# EAGLE library part DSPIC33EP256MC506 (library DRV83x2Support)
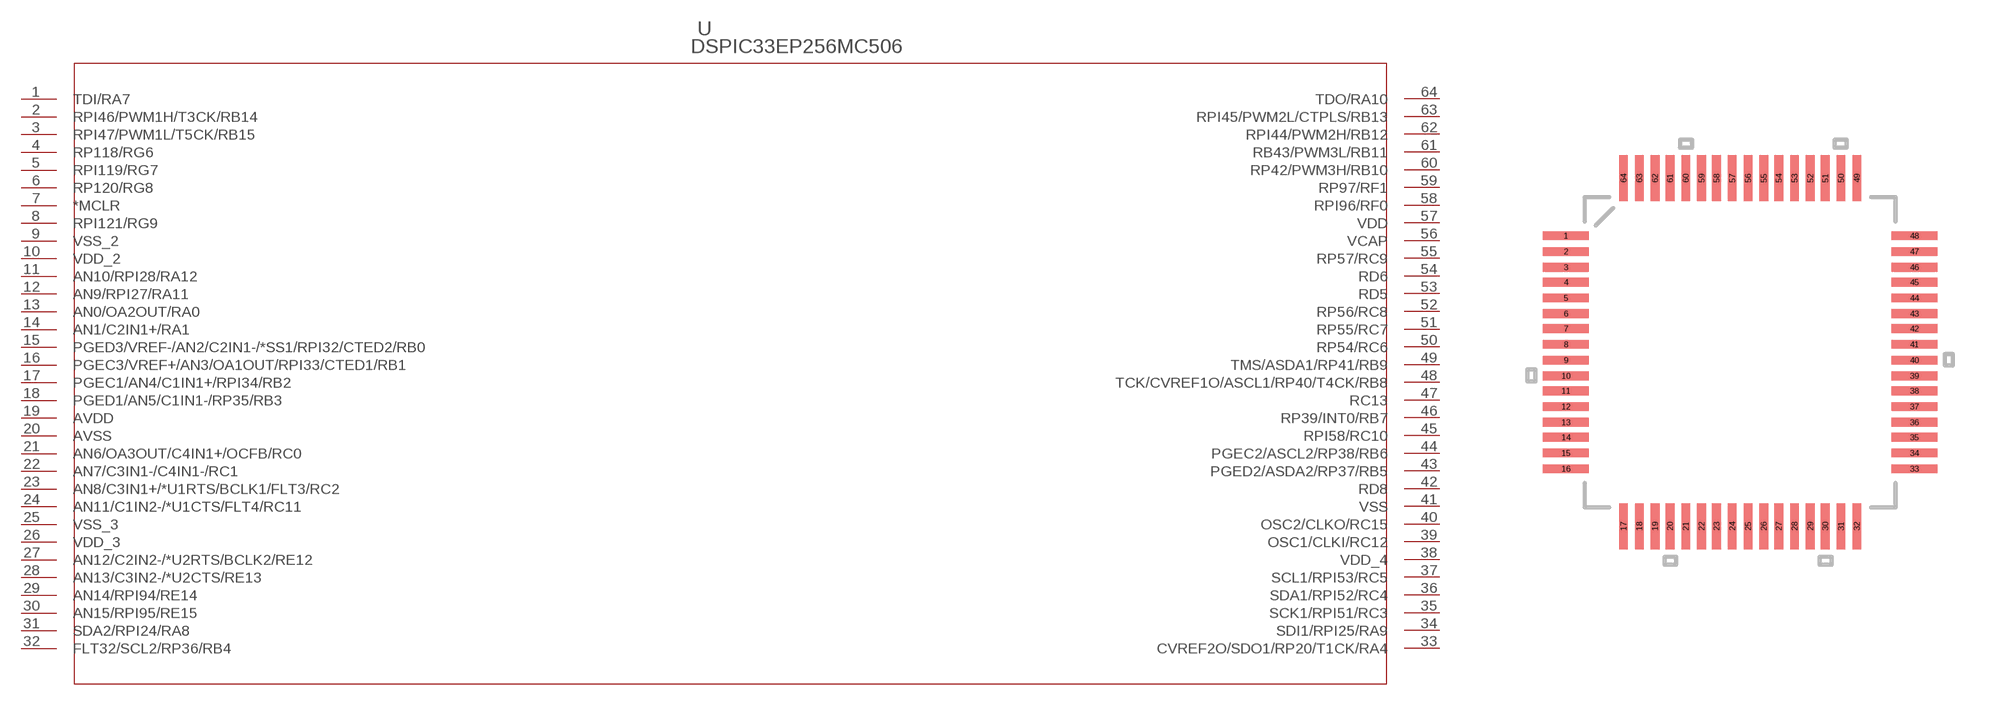
[diagram p2: symbol with the pads of QFP64-10X10MC; footprint QFP64-10X10MC]

Designator prefix -

## DSPIC33EP256MC506  [QFP64-10X10MC]
1  TDI/RA7  pas
2  RPI46/PWM1H/T3CK/RB14  pas
3  RPI47/PWM1L/T5CK/RB15  pas
4  RP118/RG6  pas
5  RPI119/RG7  pas
6  RP120/RG8  pas
7  *MCLR  pas
8  RPI121/RG9  pas
9  VSS_2  pas
10  VDD_2  pas
11  AN10/RPI28/RA12  pas
12  AN9/RPI27/RA11  pas
13  AN0/OA2OUT/RA0  pas
14  AN1/C2IN1+/RA1  pas
15  PGED3/VREF-/AN2/C2IN1-/*SS1/RPI32/CTED2/RB0  pas
16  PGEC3/VREF+/AN3/OA1OUT/RPI33/CTED1/RB1  pas
17  PGEC1/AN4/C1IN1+/RPI34/RB2  pas
18  PGED1/AN5/C1IN1-/RP35/RB3  pas
19  AVDD  pas
20  AVSS  pas
21  AN6/OA3OUT/C4IN1+/OCFB/RC0  pas
22  AN7/C3IN1-/C4IN1-/RC1  pas
23  AN8/C3IN1+/*U1RTS/BCLK1/FLT3/RC2  pas
24  AN11/C1IN2-/*U1CTS/FLT4/RC11  pas
25  VSS_3  pas
26  VDD_3  pas
27  AN12/C2IN2-/*U2RTS/BCLK2/RE12  pas
28  AN13/C3IN2-/*U2CTS/RE13  pas
29  AN14/RPI94/RE14  pas
30  AN15/RPI95/RE15  pas
31  SDA2/RPI24/RA8  pas
32  FLT32/SCL2/RP36/RB4  pas
33  CVREF2O/SDO1/RP20/T1CK/RA4  pas
34  SDI1/RPI25/RA9  pas
35  SCK1/RPI51/RC3  pas
36  SDA1/RPI52/RC4  pas
37  SCL1/RPI53/RC5  pas
38  VDD_4  pas
39  OSC1/CLKI/RC12  pas
40  OSC2/CLKO/RC15  pas
41  VSS  pas
42  RD8  pas
43  PGED2/ASDA2/RP37/RB5  pas
44  PGEC2/ASCL2/RP38/RB6  pas
45  RPI58/RC10  pas
46  RP39/INT0/RB7  pas
47  RC13  pas
48  TCK/CVREF1O/ASCL1/RP40/T4CK/RB8  pas
49  TMS/ASDA1/RP41/RB9  pas
50  RP54/RC6  pas
51  RP55/RC7  pas
52  RP56/RC8  pas
53  RD5  pas
54  RD6  pas
55  RP57/RC9  pas
56  VCAP  pas
57  VDD  pas
58  RPI96/RF0  pas
59  RP97/RF1  pas
60  RP42/PWM3H/RB10  pas
61  RB43/PWM3L/RB11  pas
62  RPI44/PWM2H/RB12  pas
63  RPI45/PWM2L/CTPLS/RB13  pas
64  TDO/RA10  pas

## Footprint QFP64-10X10MC (pad centres in mm)
smd 1.473 x 0.279: 1 -5.613,3.759; 2 -5.613,3.251; 3 -5.613,2.743; 4 -5.613,2.261; 5 -5.613,1.753; 6 -5.613,1.245; 7 -5.613,0.762; 8 -5.613,0.254; 9 -5.613,-0.254; 10 -5.613,-0.762; 11 -5.613,-1.245; 12 -5.613,-1.753; 13 -5.613,-2.261; 14 -5.613,-2.743; 15 -5.613,-3.251; 16 -5.613,-3.759; 33 5.613,-3.759; 34 5.613,-3.251; 35 5.613,-2.743; 36 5.613,-2.261; 37 5.613,-1.753; 38 5.613,-1.245; 39 5.613,-0.762; 40 5.613,-0.254; 41 5.613,0.254; 42 5.613,0.762; 43 5.613,1.245; 44 5.613,1.753; 45 5.613,2.261; 46 5.613,2.743; 47 5.613,3.251; 48 5.613,3.759
smd 0.279 x 1.473: 17 -3.759,-5.613; 18 -3.251,-5.613; 19 -2.743,-5.613; 20 -2.261,-5.613; 21 -1.753,-5.613; 22 -1.245,-5.613; 23 -0.762,-5.613; 24 -0.254,-5.613; 25 0.254,-5.613; 26 0.762,-5.613; 27 1.245,-5.613; 28 1.753,-5.613; 29 2.261,-5.613; 30 2.743,-5.613; 31 3.251,-5.613; 32 3.759,-5.613; 49 3.759,5.613; 50 3.251,5.613; 51 2.743,5.613; 52 2.261,5.613; 53 1.753,5.613; 54 1.245,5.613; 55 0.762,5.613; 56 0.254,5.613; 57 -0.254,5.613; 58 -0.762,5.613; 59 -1.245,5.613; 60 -1.753,5.613; 61 -2.261,5.613; 62 -2.743,5.613; 63 -3.251,5.613; 64 -3.759,5.613